# Altium schematic symbol library HAB_Connectors.SchLib: 10 symbols
Pins are listed as number, name and electrical type; pins without a type are passive.

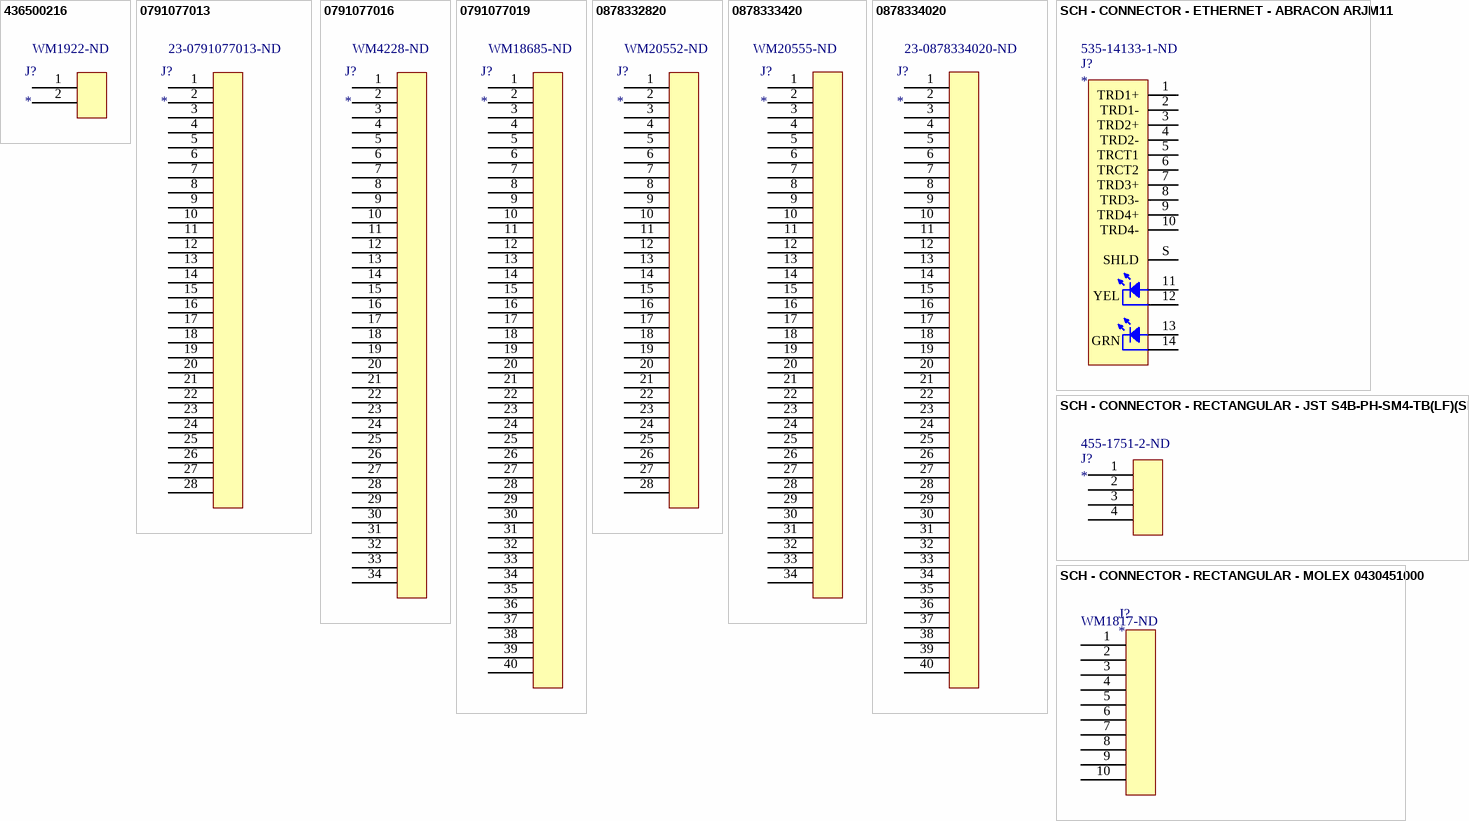
[diagram p0: symbols 436500216 to SCH - CONNECTOR - RECTANGULAR - MOLEX 0430451000]

## 436500216
designator J?  Supplier Part Number 1: WM1922-ND
Supplier 1: Digi-Key
footprint 436500216 (2 pin microfit header, vertical)
pins: 1, 2

## 0791077013
designator J?  Supplier Part Number 1: 23-0791077013-ND
Supplier 1: Digi-Key
footprint 0791077013 (28 pin milli-grid receptacle, vertical)
pins: 1, 2, 3, 4, 5, 6, 7, 8, 9, 10, 11, 12, 13, 14, 15, 16, 17, 18, 19, 20, 21, 22, 23, 24, 25, 26, 27, 28

## 0791077016
designator J?  Supplier Part Number 1: WM4228-ND
Supplier 1: Digi-Key
footprint 0791077016 (34 pin milli-grid receptacle, vertical)
pins: 1, 2, 3, 4, 5, 6, 7, 8, 9, 10, 11, 12, 13, 14, 15, 16, 17, 18, 19, 20, 21, 22, 23, 24, 25, 26, 27, 28, 29, 30, 31, 32, 33, 34

## 0791077019
designator J?  Supplier Part Number 1: WM18685-ND
Supplier 1: Digi-Key
footprint 0791077019 (40 pin milli-grid receptacle, vertical)
pins: 1, 2, 3, 4, 5, 6, 7, 8, 9, 10, 11, 12, 13, 14, 15, 16, 17, 18, 19, 20, 21, 22, 23, 24, 25, 26, 27, 28, 29, 30, 31, 32, 33, 34, 35, 36, 37, 38, 39, 40

## 0878332820
designator J?  Supplier Part Number 1: WM20552-ND
Supplier 1: Digi-Key
footprint 0878332820 (28 pin milli-grid header, right-angle)
pins: 1, 2, 3, 4, 5, 6, 7, 8, 9, 10, 11, 12, 13, 14, 15, 16, 17, 18, 19, 20, 21, 22, 23, 24, 25, 26, 27, 28

## 0878333420
designator J?  Supplier Part Number 1: WM20555-ND
Supplier 1: Digi-Key
footprint 0878333420 (34 pin milli-grid header, right-angle)
pins: 1, 2, 3, 4, 5, 6, 7, 8, 9, 10, 11, 12, 13, 14, 15, 16, 17, 18, 19, 20, 21, 22, 23, 24, 25, 26, 27, 28, 29, 30, 31, 32, 33, 34

## 0878334020
designator J?  Supplier Part Number 1: 23-0878334020-ND
Supplier 1: Digi-Key
footprint 0878334020 (40 pin milli-grid header, right-angle)
pins: 1, 2, 3, 4, 5, 6, 7, 8, 9, 10, 11, 12, 13, 14, 15, 16, 17, 18, 19, 20, 21, 22, 23, 24, 25, 26, 27, 28, 29, 30, 31, 32, 33, 34, 35, 36, 37, 38, 39, 40

## SCH - CONNECTOR - ETHERNET - ABRACON ARJM11
designator J?  Supplier Part Number 1: 535-14133-1-ND
Supplier 1: Digi-Key
footprint PCB - CONNECTOR - MODULAR - ETHERNET - ABRACON ARJM11
pins: 1 TRD1+, 2 TRD1-, 3 TRD2+, 4 TRD2-, 5 TRCT1, 6 TRCT2, 7 TRD3+, 8 TRD3-, 9 TRD4+, 10 TRD4-, 11 L1, 12 L2, 13 L3, 14 L4, S SHLD
text: YEL; GRN

## SCH - CONNECTOR - RECTANGULAR - JST S4B-PH-SM4-TB(LF)(SN)
designator J?  Supplier Part Number 1: 455-1751-2-ND
Supplier 1: Digi-Key
footprint PCB - CONNECTOR - RECTANGULAR - JST S4B-PH-SM4-TB(LF)(SN)_JST
pins: 1, 2, 3, 4

## SCH - CONNECTOR - RECTANGULAR - MOLEX 0430451000
designator J?  Supplier Part Number 1: WM1817-ND
Supplier 1: Digi-Key
footprint PCB - CONNECTOR - RECTANGULAR - MOLEX 0430451000
pins: 1, 2, 3, 4, 5, 6, 7, 8, 9, 10